# Altium footprint library LYDZ.PcbLib: 231 footprints (part 6 of 15)
Each footprint in its own frame and in the unit in brackets; x right, y up, seen from the top. Pads: shape width x height; smd on the part's side, far side on the other; paste and mask are expansions set on the pad; w line width, h text height; cw(c..) or ccw(c..) is an arc to the next point about the centre after c.
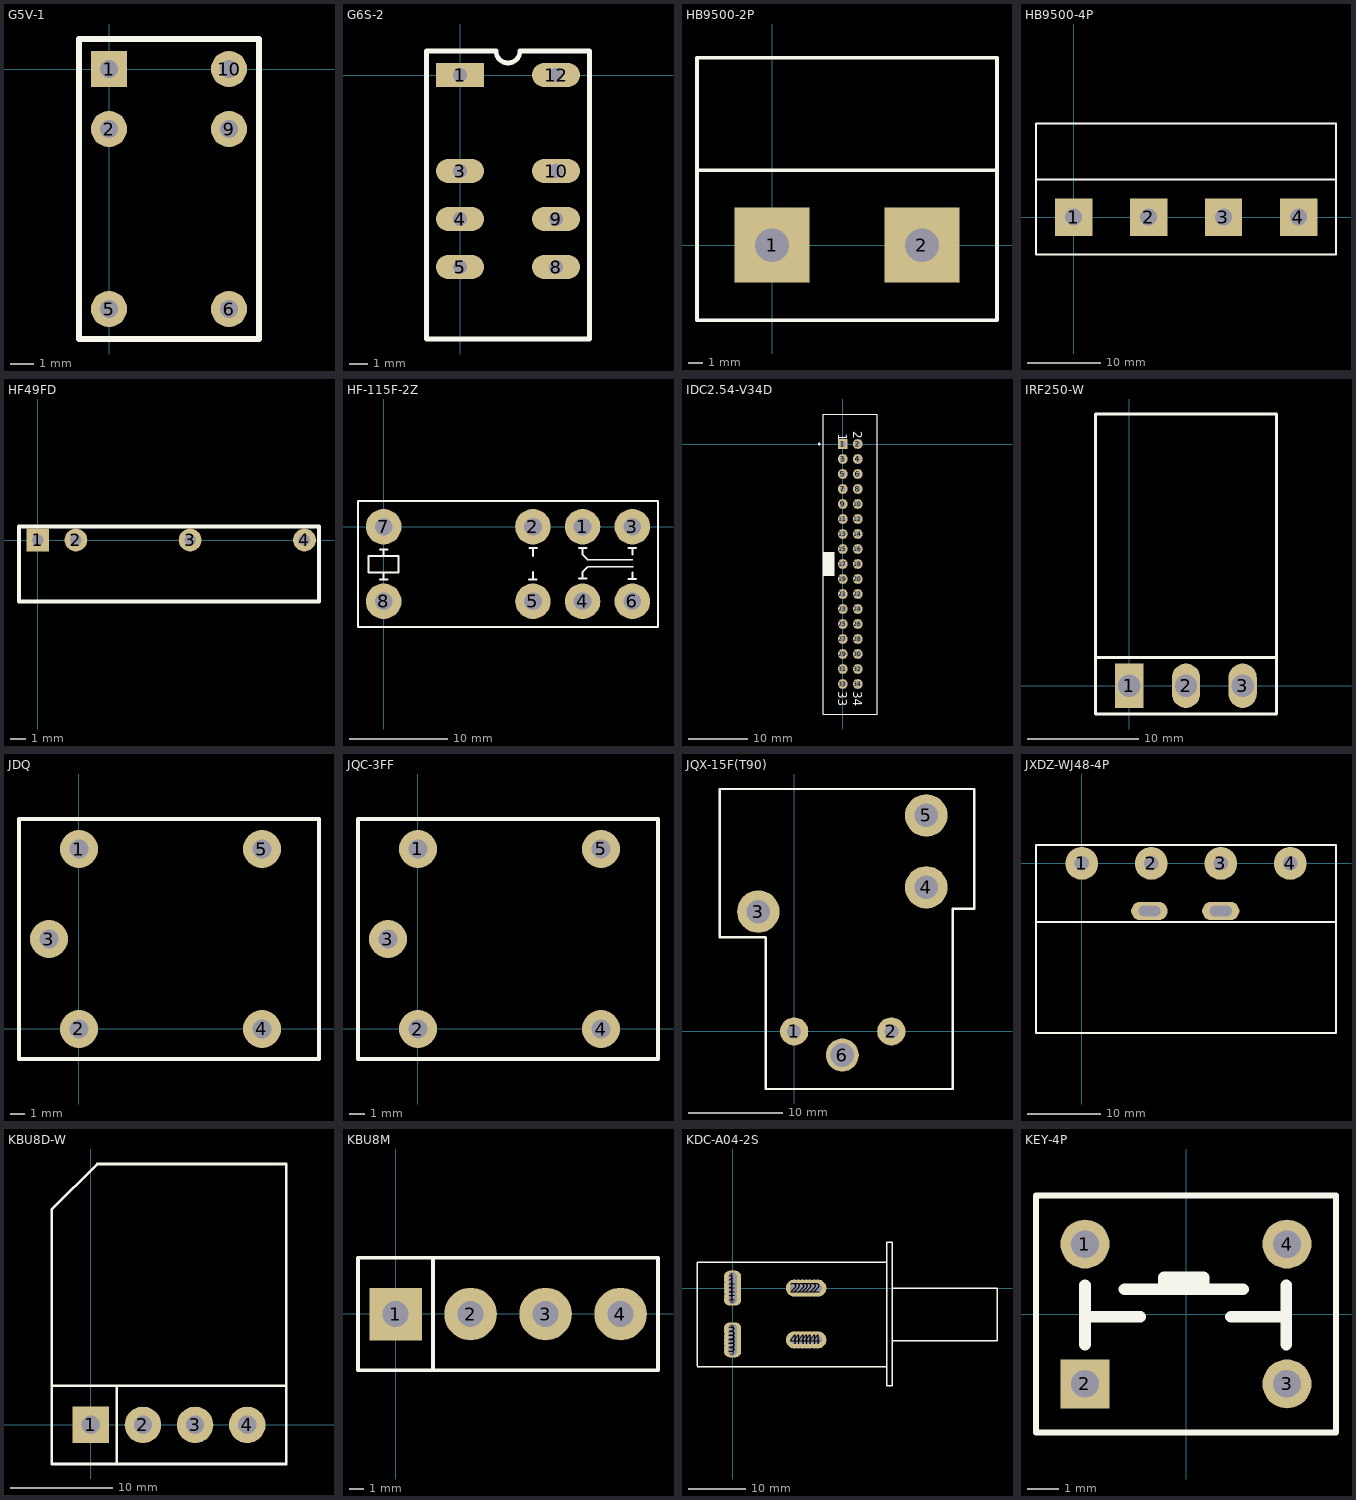
[diagram p5: the footprints below, top view; thin cyan lines are the x and y axes]

## G5V-1 [mil]
pads (6):
  rect 60x60 hole 30: 1(0,0)
  round 60 hole 30: 2(0,-100) 5(0,-400) 6(200,-400) 9(200,-100) 10(200,0)
Top Overlay:
  lines w10: -50,-450 130,-450 250,-450 250,50 -50,50 -50,-450

## G6S-2 [mil]
pads (8):
  rect 100x50 hole 30: 1(0,0)
  oval 100x50 hole 30: 3(0,-200) 4(0,-300) 5(0,-400) 8(200,-400) 9(200,-300) 10(200,-200) 12(200,0)
Top Overlay:
  lines w10: -70,-550 270,-550 270,50 125,50 cw(c100,50) 75,50 -70,50 -70,-550

## HB9500-2P [mil]
pads (2):
  rect 200x200 hole 90: 1(0,0) 2(400,0)
Top Overlay:
  lines w10: -200,200 600,200 ; -200,-200 -200,500 600,500 600,-200 -200,-200

## HB9500-4P [mil]
pads (4):
  rect 200x200 hole 90: 1(0,0) 2(400,0) 3(800,0) 4(1200,0)
Top Overlay:
  lines w10: -200,200 1400,200 ; -200,-200 -200,500 1400,500 1400,-200 -200,-200

## HF49FD [mil]
pads (4):
  rect 60x60 hole 30: 1(0,0)
  round 60 hole 30: 2(100,0) 3(400,0) 4(700,0)
Top Overlay:
  lines w10: -49.21,-161.42 -49.21,35.43 738.19,35.43 738.19,-161.42 -49.21,-161.42

## HF-115F-2Z [mm]
pads (8):
  round 3.6 hole 1.8: 1(20.16,0) 2(15.12,0) 3(25.2,0) 4(20.16,-7.56) 5(15.128,-7.56) 6(25.2,-7.56) 7(0,0) 8(0,-7.56)
Top Overlay:
  lines w0.127: 20.168,-4.572 20.701,-4.039 ; 20.168,-2.819 20.701,-3.353 25.248,-3.353 ; 20.726,-4.039 25.273,-4.039
  lines w0.203: -0.381,-5.334 0.381,-5.334 ; -0.381,-2.286 0.381,-2.286 ; 0,-5.258 0,-4.648 ; 0,-2.946 0,-2.337 ; 14.732,-5.334 15.494,-5.334 ; 14.783,-2.159 15.545,-2.159 ; 15.113,-5.334 15.113,-4.597 ; 15.138,-2.972 15.138,-2.184 15.164,-2.159 ; 19.787,-5.258 20.549,-5.258 ; 19.787,-2.159 20.549,-2.159 ; 20.168,-5.258 20.168,-4.597 ; 20.168,-2.819 20.168,-2.159 ; 24.816,-5.283 25.578,-5.283 ; 24.816,-2.159 25.578,-2.159 ; 25.197,-5.283 25.197,-4.623 ; 25.197,-2.819 25.197,-2.159 ; -2.6,-10.16 27.8,-10.16 27.8,2.6 -2.6,2.6 -2.6,-10.16 ; -1.524,-4.623 -1.524,-2.946 1.524,-2.946 1.524,-4.623 -1.524,-4.623

## IDC2.54-V34D [mm]
pads (34):
  rect 1.65x1.65 hole 1: 1(0,0)
  round 1.65 hole 1: 2(2.54,0) 3(0,-2.54) 4(2.54,-2.54) 5(0,-5.08) 6(2.54,-5.08) 7(0,-7.62) 8(2.54,-7.62) 9(0,-10.16) 10(2.54,-10.16) 11(0,-12.7) 12(2.54,-12.7) 13(0,-15.24) 14(2.54,-15.24) 15(0,-17.78) 16(2.54,-17.78) 17(0,-20.32) 18(2.54,-20.32) 19(0,-22.86) 20(2.54,-22.86) 21(0,-25.4) 22(2.54,-25.4) 23(0,-27.94) 24(2.54,-27.94) 25(0,-30.48) 26(2.54,-30.48) 27(0,-33.02) 28(2.54,-33.02) 29(0,-35.56) 30(2.54,-35.56) 31(0,-38.1) 32(2.54,-38.1) 33(0,-40.64) 34(2.54,-40.64)
Top Overlay:
  circle w0.25: c-3.98,0 r0.125
  region: -3.33,-18.27 -3.33,-22.37 -1.43,-22.37 -1.43,-18.27
  lines w0.2: -3.33,-45.72 -3.33,5.08 5.87,5.08 5.87,-45.72 -3.33,-45.72
  text "33" at -0.75,-41.84 h1.5
  text "34" at 1.79,-41.84 h1.5
  text "1" at -0.75,1.7 h1.5
  text "2" at 1.79,2.2 h1.5
Mechanical 13:
  lines w0.1: -3.33,-45.72 -3.33,5.08 5.87,5.08 5.87,-45.72 -3.33,-45.72
3D body: height 9.45, standoff 0, extent -3.33,-45.72 5.87,5.08

## IRF250-W [mil]
pads (3):
  rect 100x157.48 hole 79: 1(0,0)
  oval 100x157.48 hole 79: 2(200,0) 3(400,0)
Top Overlay:
  lines w10: -120,100 -120,-100 520,-100 520,100 ; -120,100 520,100 ; -120,100 -120,960 520,960 520,100

## JDQ [mil]
pads (5):
  round 100 hole 50: 1(0.41,472.22) 2(0.41,-0.22) 3(-78.33,236) 4(480.72,-0.22) 5(480.72,472.22)
Top Overlay:
  lines w10: -157.07,-78.96 630.33,-78.96 630.33,550.96 -157.07,550.96 -157.07,-78.96

## JQC-3FF [mil]
pads (5):
  round 100 hole 50: 1(0.41,472.22) 2(0.41,-0.22) 3(-78.33,236) 4(480.72,-0.22) 5(480.72,472.22)
Top Overlay:
  lines w10: -157.07,-78.96 -157.07,550.96 630.33,550.96 630.33,-78.96 -157.07,-78.96

## JQX-15F(T90) [mm]
pads (6):
  round 3 hole 1.5: 1(0,0) 2(10.3,0)
  round 4.5 hole 2.5: 3(-3.8,12.7) 4(14,15.28) 5(14,22.9)
  round 3.5 hole 2.5: 6(5.1,-2.5)
Top Overlay:
  lines w0.254: 13.4,25.7 19.1,25.7 ; -7.9,25.7 -7.9,10 -3.1,10 -3,9.9 -3,-6.1 16.8,-6.1 16.8,13 19.1,13 ; -7.9,25.7 -7.9,25.7 ; -7.9,25.7 19.1,25.7 ; 19.1,13 19.1,13 ; 19.1,13 19.1,25.7

## JXDZ-WJ48-4P [mm]
pads (14):
  round 4.5 hole 2: 1(0,0) 2(9.5,0) 3(19,0) 4(28.5,0)
  oval 3.5x2.5 hole 1.5: ""(8.5,-6.5) ""(9,-6.5) ""(9.5,-6.5) ""(10,-6.5) ""(10,-6.5) ""(18.2,-6.5) ""(18.5,-6.5) ""(19,-6.5) ""(19.5,-6.5) ""(19.8,-6.5)
Top Overlay:
  lines w0.254: -6.25,-8 34.75,-8 ; -6.25,-23.2 34.75,-23.2 34.75,2.535 -6.25,2.535 -6.25,-23.2

## KBU8D-W [mil]
pads (4):
  rect 140x140 hole 70: 1(0,0)
  round 140 hole 70: 2(200,0) 3(400,0) 4(600,0)
Top Overlay:
  lines w10: 100,-150 100,150 ; -150,150 -150,825 25,1000 750,1000 750,150 ; -150,150 750,150 ; -150,150 -150,-150 750,-150 750,150

## KBU8M [mil]
pads (4):
  rect 140x140 hole 70: 1(-0.6,-0.25)
  round 140 hole 70: 2(199.4,-0.25) 3(399.4,-0.25) 4(599.4,-0.25)
Top Overlay:
  lines w10: 99.4,-150.25 99.4,149.75 ; -100.6,-150.25 -100.6,149.75 699.4,149.75 699.4,-150.25 -100.6,-150.25

## KDC-A04-2S [mm]
pads (28):
  oval 3x2 hole 1.5: 1(0,-2.032) 1(0,2.032) 3(0,-11.032) 3(0,-6.968)
  round 3 hole 1.5: 1(0,-1.397) 1(0,-0.635) 1(0,0) 1(0,0.635) 1(0,1.397) 2(10.768,0) 2(11.403,0) 2(12.165,0) 2(12.8,0) 2(13.435,0) 2(14.197,0) 2(14.832,0) 3(0,-10.397) 3(0,-9.635) 3(0,-9) 3(0,-8.365) 3(0,-7.603) 4(10.768,-9) 4(11.403,-9) 4(12.165,-9) 4(12.8,-9) 4(13.435,-9) 4(14.197,-9) 4(14.832,-9)
Top Overlay:
  lines w0.254: -6.2,-13.644 26.8,-13.644 ; -6.2,-13.5 -6.2,4.5 26.8,4.5 ; 27.8,0.008 46.006,0.008 46.006,-9.136 27.882,-9.136 27.8,-9.218 27.8,-17 ; 27.8,-17 27.8,8 26.8,8 26.8,-17 27.8,-17

## KEY-4P [mil]
pads (4):
  round 62 hole 35: 1(-127.95,88.58) 3(127.95,-88.58) 4(127.95,88.58)
  rect 62x62 hole 35: 2(-127.95,-88.58)
Top Overlay:
  lines w8: -190,-150 190,-150 190,150 -190,150 -190,-150
  lines w15: -127.95,-38.58 -127.95,36.42 ; -127.95,-3.58 -57.95,-3.58 ; -77.95,31.42 72.05,31.42 ; -27.95,36.42 -27.95,46.42 22.05,46.42 22.05,31.42 ; 57.05,-3.58 127.05,-3.58 ; 127.05,-38.58 127.05,36.42